# Altium schematic symbol library CONN 4POS.SchLib: 1 symbol
Pins are listed as number, name and electrical type; pins without a type are passive.

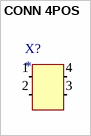
[diagram p0: symbol CONN 4POS]

## CONN 4POS
designator X?
pins: 1 (in), 2 (in), 3 (in), 4 (in)